# Altium footprint library Molex 76825-0006.PcbLib: 1 footprints
Each footprint in its own frame and in the unit in brackets; x right, y up, seen from the top. Pads: shape width x height; smd on the part's side, far side on the other; paste and mask are expansions set on the pad; w line width, h text height; cw(c..) or ccw(c..) is an arc to the next point about the centre after c.
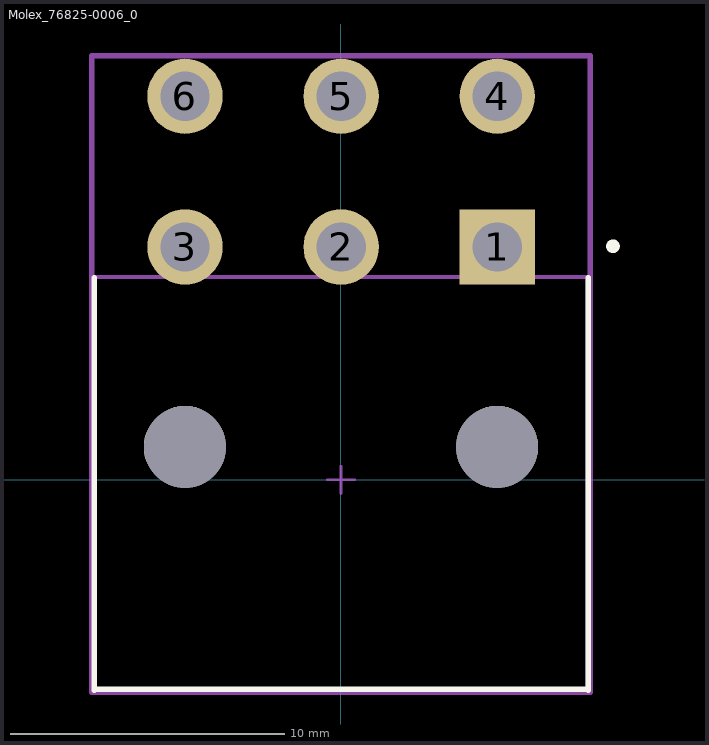
[diagram p0: the footprint, top view; thin cyan lines are the x and y axes]

## Molex_76825-0006_0 [mm]
pads (8):
  rect 2.75x2.75 hole 1.8 paste-1000 mask+0: 1(5.705,8.5)
  round 2.75 hole 1.8 paste-1000 mask+0: 2(0.005,8.5) 3(-5.695,8.5) 4(5.705,14) 5(0.005,14) 6(-5.695,14)
  round 3 hole 3 unplated paste-1000 mask+0: ""(-5.695,1.2) ""(5.695,1.2)
Top Overlay:
  circle w0.25: c9.925,8.525 r0.125
  lines w0.2: -9,-7.675 -9,7.375 ; -9,-7.65 9,-7.65 ; 9.025,-7.675 9.025,7.375
Mechanical 10:
  lines w0.2: -9.1,-7.75 -9.1,15.475 9.1,15.475 9.1,-7.75 -9.1,-7.75
Mechanical 12:
  lines w0.15: -9,-7.65 -9,7.4 9,7.4 9,-7.65 -9,-7.65
Mechanical 15:
  lines w0.1: -0.5,0 0.5,0 ; 0,-0.5 0,0.5
  lines w0.2: -9.1,-7.75 -9.1,15.475 9.1,15.475 9.1,-7.75 -9.1,-7.75
3D body "Conn_Molex_76825-0006_eec.STEP": height 0.25, standoff 0, extent -9.1,-7.75 9.1,15.475